# EAGLE library part ADA_MPR121 (library arduinoShield)
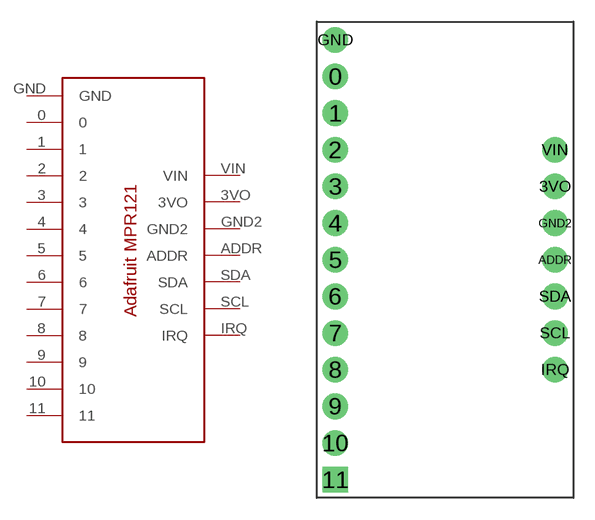
[diagram p2: symbol with the pads of ADA_MPR121; footprint ADA_MPR121]

Designator prefix -

## ADA_MPR121  [ADA_MPR121]
0  0
1  1
2  2
3  3
3VO  3VO
4  4
5  5
6  6
7  7
8  8
9  9
10  10
11  11
ADDR  ADDR
GND  GND
GND2  GND2
IRQ  IRQ
SCL  SCL
SDA  SDA
VIN  VIN

## Footprint ADA_MPR121 (pad centres in mm)
drill 1.016 pad 1.778: 0 0,-2.54; 1 0,-5.08; 2 0,-7.62; 3 0,-10.16; 3VO 15.24,-10.16; 4 0,-12.7; 5 0,-15.24; 6 0,-17.78; 7 0,-20.32; 8 0,-22.86; 9 0,-25.4; 10 0,-27.94; ADDR 15.24,-15.24; GND 0,0; GND2 15.24,-12.7; IRQ 15.24,-22.86; SCL 15.24,-20.32; SDA 15.24,-17.78; VIN 15.24,-7.62
drill 1.016 pad 1.778 square: 11 0,-30.48